# EAGLE library part LM3526-L (library ld-components)
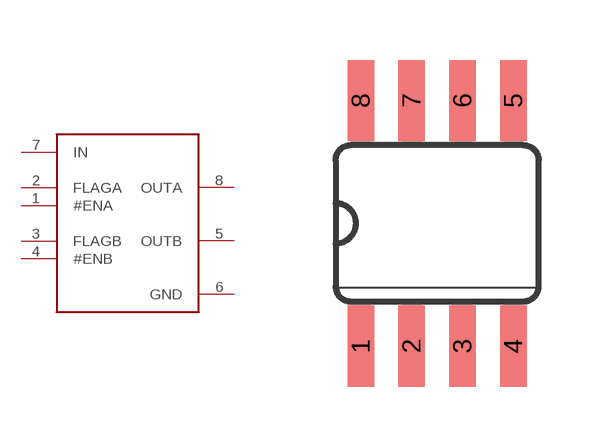
[diagram p7: symbol with the pads of SO08; footprint SO08]

Designator prefix -

## LM3526-L  [SO08]
1  #ENA
2  FLAGA
3  FLAGB
4  #ENB
5  OUTB
6  GND
7  IN
8  OUTA

## Footprint SO08 (pad centres in mm)
smd 0.66 x 2.032: 1 -1.905,-3.073; 2 -0.635,-3.073; 3 0.635,-3.073; 4 1.905,-3.073; 5 1.905,3.073; 6 0.635,3.073; 7 -0.635,3.073; 8 -1.905,3.073